# Altium schematic symbol library SCH - ARM CORTEX - STM STM8AF6289Tx.SchLib: 1 symbol
Pins are listed as number, name and electrical type; pins without a type are passive.

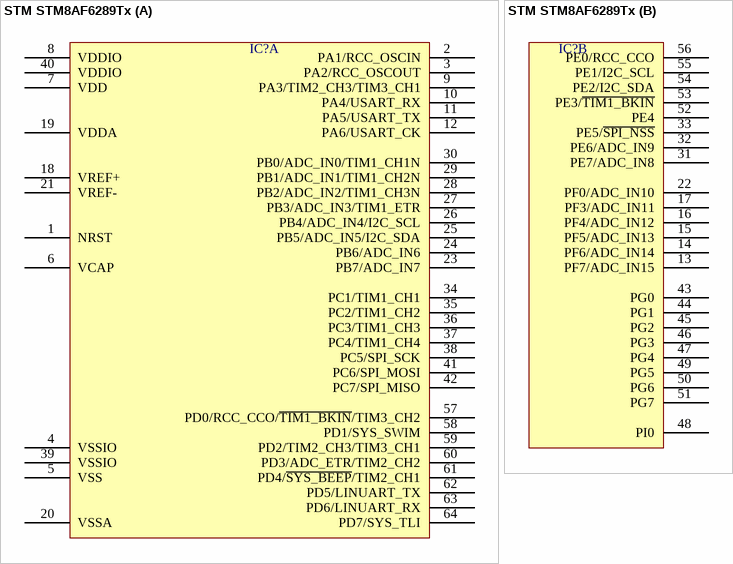
[diagram p0: symbol STM STM8AF6289Tx]

## STM STM8AF6289Tx
designator IC?  (value not drawn)
part A pins: 1 NRST, 2 PA1/RCC_OSCIN, 3 PA2/RCC_OSCOUT, 4 VSSIO, 5 VSS, 6 VCAP, 7 VDD, 8 VDDIO, 9 PA3/TIM2_CH3/TIM3_CH1, 10 PA4/USART_RX, 11 PA5/USART_TX, 12 PA6/USART_CK, 18 VREF+, 19 VDDA, 20 VSSA, 21 VREF-, 23 PB7/ADC_IN7, 24 PB6/ADC_IN6, 25 PB5/ADC_IN5/I2C_SDA, 26 PB4/ADC_IN4/I2C_SCL, 27 PB3/ADC_IN3/TIM1_ETR, 28 PB2/ADC_IN2/TIM1_CH3N, 29 PB1/ADC_IN1/TIM1_CH2N, 30 PB0/ADC_IN0/TIM1_CH1N, 34 PC1/TIM1_CH1, 35 PC2/TIM1_CH2, 36 PC3/TIM1_CH3, 37 PC4/TIM1_CH4, 38 PC5/SPI_SCK, 39 VSSIO, 40 VDDIO, 41 PC6/SPI_MOSI, 42 PC7/SPI_MISO, 57 PD0/RCC_CCO/~{TIM1_BKIN}/TIM3_CH2, 58 PD1/SYS_SWIM, 59 PD2/TIM2_CH3/TIM3_CH1, 60 PD3/ADC_ETR/TIM2_CH2, 61 PD4/~{SYS_BEEP}/TIM2_CH1, 62 PD5/LINUART_TX, 63 PD6/LINUART_RX, 64 PD7/SYS_TLI
part B pins: 13 PF7/ADC_IN15, 14 PF6/ADC_IN14, 15 PF5/ADC_IN13, 16 PF4/ADC_IN12, 17 PF3/ADC_IN11, 22 PF0/ADC_IN10, 31 PE7/ADC_IN8, 32 PE6/ADC_IN9, 33 PE5/~{SPI_NSS}, 43 PG0, 44 PG1, 45 PG2, 46 PG3, 47 PG4, 48 PI0, 49 PG5, 50 PG6, 51 PG7, 52 PE4, 53 PE3/~{TIM1_BKIN}, 54 PE2/I2C_SDA, 55 PE1/I2C_SCL, 56 PE0/RCC_CCO